# Altium footprint library BGA (1.0mm Pitch, Square5).PcbLib: 8 footprints (part 5 of 6)
Each footprint in its own frame and in the unit in brackets; x right, y up, seen from the top. Pads: shape width x height; smd on the part's side, far side on the other; paste and mask are expansions set on the pad; w line width, h text height; cw(c..) or ccw(c..) is an arc to the next point about the centre after c.
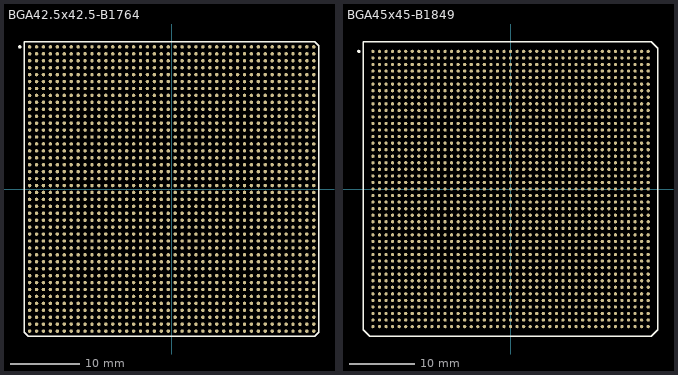
[diagram p4: the footprints below, top view; thin cyan lines are the x and y axes]

## BGA42.5x42.5-B1764 [mm] "BGA; 1764 Balls; Body 42.5 x 42.5 mm; Pitch 1 mm"
height 3.5
pads (1764):
  round 0.5 smd: A1(-20.5,20.5) A2(-19.5,20.5) A3(-18.5,20.5) A4(-17.5,20.5) A5(-16.5,20.5) A6(-15.5,20.5) A7(-14.5,20.5) A8(-13.5,20.5) A9(-12.5,20.5) A10(-11.5,20.5) A11(-10.5,20.5) A12(-9.5,20.5) A13(-8.5,20.5) A14(-7.5,20.5) A15(-6.5,20.5) A16(-5.5,20.5) A17(-4.5,20.5) A18(-3.5,20.5) A19(-2.5,20.5) A20(-1.5,20.5) A21(-0.5,20.5) A22(0.5,20.5) A23(1.5,20.5) A24(2.5,20.5) A25(3.5,20.5) A26(4.5,20.5) A27(5.5,20.5) A28(6.5,20.5) A29(7.5,20.5) A30(8.5,20.5) A31(9.5,20.5) A32(10.5,20.5) A33(11.5,20.5) A34(12.5,20.5) A35(13.5,20.5) A36(14.5,20.5) A37(15.5,20.5) A38(16.5,20.5) A39(17.5,20.5) A40(18.5,20.5) A41(19.5,20.5) A42(20.5,20.5) AA1(-20.5,0.5) AA2(-19.5,0.5) AA3(-18.5,0.5) AA4(-17.5,0.5) AA5(-16.5,0.5) AA6(-15.5,0.5) AA7(-14.5,0.5) AA8(-13.5,0.5) AA9(-12.5,0.5) AA10(-11.5,0.5) AA11(-10.5,0.5) AA12(-9.5,0.5) AA13(-8.5,0.5) AA14(-7.5,0.5) AA15(-6.5,0.5) AA16(-5.5,0.5) AA17(-4.5,0.5) AA18(-3.5,0.5) AA19(-2.5,0.5) AA20(-1.5,0.5) AA21(-0.5,0.5) AA22(0.5,0.5) AA23(1.5,0.5) AA24(2.5,0.5) AA25(3.5,0.5) AA26(4.5,0.5) AA27(5.5,0.5) AA28(6.5,0.5) AA29(7.5,0.5) AA30(8.5,0.5) AA31(9.5,0.5) AA32(10.5,0.5) AA33(11.5,0.5) AA34(12.5,0.5) AA35(13.5,0.5) AA36(14.5,0.5) AA37(15.5,0.5) AA38(16.5,0.5) AA39(17.5,0.5) AA40(18.5,0.5) AA41(19.5,0.5) AA42(20.5,0.5) AB1(-20.5,-0.5) AB2(-19.5,-0.5) AB3(-18.5,-0.5) AB4(-17.5,-0.5) AB5(-16.5,-0.5) AB6(-15.5,-0.5) AB7(-14.5,-0.5) AB8(-13.5,-0.5) AB9(-12.5,-0.5) AB10(-11.5,-0.5) AB11(-10.5,-0.5) AB12(-9.5,-0.5) AB13(-8.5,-0.5) AB14(-7.5,-0.5) AB15(-6.5,-0.5) AB16(-5.5,-0.5) AB17(-4.5,-0.5) AB18(-3.5,-0.5) AB19(-2.5,-0.5) AB20(-1.5,-0.5) AB21(-0.5,-0.5) AB22(0.5,-0.5) AB23(1.5,-0.5) AB24(2.5,-0.5) AB25(3.5,-0.5) AB26(4.5,-0.5) AB27(5.5,-0.5) AB28(6.5,-0.5) AB29(7.5,-0.5) AB30(8.5,-0.5) AB31(9.5,-0.5) AB32(10.5,-0.5) AB33(11.5,-0.5) AB34(12.5,-0.5) AB35(13.5,-0.5) AB36(14.5,-0.5) AB37(15.5,-0.5) AB38(16.5,-0.5) AB39(17.5,-0.5) AB40(18.5,-0.5) AB41(19.5,-0.5) AB42(20.5,-0.5) AC1(-20.5,-1.5) AC2(-19.5,-1.5) AC3(-18.5,-1.5) AC4(-17.5,-1.5) AC5(-16.5,-1.5) AC6(-15.5,-1.5) AC7(-14.5,-1.5) AC8(-13.5,-1.5) AC9(-12.5,-1.5) AC10(-11.5,-1.5) AC11(-10.5,-1.5) AC12(-9.5,-1.5) AC13(-8.5,-1.5) AC14(-7.5,-1.5) AC15(-6.5,-1.5) AC16(-5.5,-1.5) AC17(-4.5,-1.5) AC18(-3.5,-1.5) AC19(-2.5,-1.5) AC20(-1.5,-1.5) AC21(-0.5,-1.5) AC22(0.5,-1.5) AC23(1.5,-1.5) AC24(2.5,-1.5) AC25(3.5,-1.5) AC26(4.5,-1.5) AC27(5.5,-1.5) AC28(6.5,-1.5) AC29(7.5,-1.5) AC30(8.5,-1.5) AC31(9.5,-1.5) AC32(10.5,-1.5) AC33(11.5,-1.5) AC34(12.5,-1.5) AC35(13.5,-1.5) AC36(14.5,-1.5) AC37(15.5,-1.5) AC38(16.5,-1.5) AC39(17.5,-1.5) AC40(18.5,-1.5) AC41(19.5,-1.5) AC42(20.5,-1.5) AD1(-20.5,-2.5) AD2(-19.5,-2.5) AD3(-18.5,-2.5) AD4(-17.5,-2.5) AD5(-16.5,-2.5) AD6(-15.5,-2.5) AD7(-14.5,-2.5) AD8(-13.5,-2.5) AD9(-12.5,-2.5) AD10(-11.5,-2.5) AD11(-10.5,-2.5) AD12(-9.5,-2.5) AD13(-8.5,-2.5) AD14(-7.5,-2.5) AD15(-6.5,-2.5) AD16(-5.5,-2.5) AD17(-4.5,-2.5) AD18(-3.5,-2.5) AD19(-2.5,-2.5) AD20(-1.5,-2.5) AD21(-0.5,-2.5) AD22(0.5,-2.5) AD23(1.5,-2.5) AD24(2.5,-2.5) AD25(3.5,-2.5) AD26(4.5,-2.5) AD27(5.5,-2.5) AD28(6.5,-2.5) AD29(7.5,-2.5) AD30(8.5,-2.5) AD31(9.5,-2.5) AD32(10.5,-2.5) AD33(11.5,-2.5) AD34(12.5,-2.5) AD35(13.5,-2.5) AD36(14.5,-2.5) AD37(15.5,-2.5) AD38(16.5,-2.5) AD39(17.5,-2.5) AD40(18.5,-2.5) AD41(19.5,-2.5) AD42(20.5,-2.5) AE1(-20.5,-3.5) AE2(-19.5,-3.5) AE3(-18.5,-3.5) AE4(-17.5,-3.5) AE5(-16.5,-3.5) AE6(-15.5,-3.5) AE7(-14.5,-3.5) AE8(-13.5,-3.5) AE9(-12.5,-3.5) AE10(-11.5,-3.5) AE11(-10.5,-3.5) AE12(-9.5,-3.5) AE13(-8.5,-3.5) AE14(-7.5,-3.5) AE15(-6.5,-3.5) AE16(-5.5,-3.5) AE17(-4.5,-3.5) AE18(-3.5,-3.5) AE19(-2.5,-3.5) AE20(-1.5,-3.5) AE21(-0.5,-3.5) AE22(0.5,-3.5) AE23(1.5,-3.5) AE24(2.5,-3.5) AE25(3.5,-3.5) AE26(4.5,-3.5) AE27(5.5,-3.5) AE28(6.5,-3.5) AE29(7.5,-3.5) AE30(8.5,-3.5) AE31(9.5,-3.5) AE32(10.5,-3.5) AE33(11.5,-3.5) AE34(12.5,-3.5) AE35(13.5,-3.5) AE36(14.5,-3.5) AE37(15.5,-3.5) AE38(16.5,-3.5) AE39(17.5,-3.5) AE40(18.5,-3.5) AE41(19.5,-3.5) AE42(20.5,-3.5) AF1(-20.5,-4.5) AF2(-19.5,-4.5) AF3(-18.5,-4.5) AF4(-17.5,-4.5) AF5(-16.5,-4.5) AF6(-15.5,-4.5) AF7(-14.5,-4.5) AF8(-13.5,-4.5) AF9(-12.5,-4.5) AF10(-11.5,-4.5) AF11(-10.5,-4.5) AF12(-9.5,-4.5) AF13(-8.5,-4.5) AF14(-7.5,-4.5) AF15(-6.5,-4.5) AF16(-5.5,-4.5) AF17(-4.5,-4.5) AF18(-3.5,-4.5) AF19(-2.5,-4.5) AF20(-1.5,-4.5) AF21(-0.5,-4.5) AF22(0.5,-4.5) AF23(1.5,-4.5) AF24(2.5,-4.5) AF25(3.5,-4.5) AF26(4.5,-4.5) AF27(5.5,-4.5) AF28(6.5,-4.5) AF29(7.5,-4.5) AF30(8.5,-4.5) AF31(9.5,-4.5) AF32(10.5,-4.5) AF33(11.5,-4.5) AF34(12.5,-4.5) AF35(13.5,-4.5) AF36(14.5,-4.5) AF37(15.5,-4.5) AF38(16.5,-4.5) AF39(17.5,-4.5) AF40(18.5,-4.5) AF41(19.5,-4.5) AF42(20.5,-4.5) AG1(-20.5,-5.5) AG2(-19.5,-5.5) AG3(-18.5,-5.5) AG4(-17.5,-5.5) AG5(-16.5,-5.5) AG6(-15.5,-5.5) AG7(-14.5,-5.5) AG8(-13.5,-5.5) AG9(-12.5,-5.5) AG10(-11.5,-5.5) AG11(-10.5,-5.5) AG12(-9.5,-5.5) AG13(-8.5,-5.5) AG14(-7.5,-5.5) AG15(-6.5,-5.5) AG16(-5.5,-5.5) AG17(-4.5,-5.5) AG18(-3.5,-5.5) AG19(-2.5,-5.5) AG20(-1.5,-5.5) AG21(-0.5,-5.5) AG22(0.5,-5.5) AG23(1.5,-5.5) AG24(2.5,-5.5) AG25(3.5,-5.5) AG26(4.5,-5.5) AG27(5.5,-5.5) AG28(6.5,-5.5) AG29(7.5,-5.5) AG30(8.5,-5.5) AG31(9.5,-5.5) AG32(10.5,-5.5) AG33(11.5,-5.5) AG34(12.5,-5.5) AG35(13.5,-5.5) AG36(14.5,-5.5) AG37(15.5,-5.5) AG38(16.5,-5.5) AG39(17.5,-5.5) AG40(18.5,-5.5) AG41(19.5,-5.5) AG42(20.5,-5.5) AH1(-20.5,-6.5) AH2(-19.5,-6.5) AH3(-18.5,-6.5) AH4(-17.5,-6.5) AH5(-16.5,-6.5) AH6(-15.5,-6.5) AH7(-14.5,-6.5) AH8(-13.5,-6.5) AH9(-12.5,-6.5) AH10(-11.5,-6.5) AH11(-10.5,-6.5) AH12(-9.5,-6.5) AH13(-8.5,-6.5) AH14(-7.5,-6.5) AH15(-6.5,-6.5) AH16(-5.5,-6.5) AH17(-4.5,-6.5) AH18(-3.5,-6.5) AH19(-2.5,-6.5) AH20(-1.5,-6.5) AH21(-0.5,-6.5) AH22(0.5,-6.5) AH23(1.5,-6.5) AH24(2.5,-6.5) AH25(3.5,-6.5) AH26(4.5,-6.5) AH27(5.5,-6.5) AH28(6.5,-6.5) AH29(7.5,-6.5) AH30(8.5,-6.5) AH31(9.5,-6.5) AH32(10.5,-6.5) AH33(11.5,-6.5) AH34(12.5,-6.5) AH35(13.5,-6.5) AH36(14.5,-6.5) AH37(15.5,-6.5) AH38(16.5,-6.5) AH39(17.5,-6.5) AH40(18.5,-6.5) AH41(19.5,-6.5) AH42(20.5,-6.5) AJ1(-20.5,-7.5) AJ2(-19.5,-7.5) AJ3(-18.5,-7.5) AJ4(-17.5,-7.5) AJ5(-16.5,-7.5) AJ6(-15.5,-7.5) AJ7(-14.5,-7.5) AJ8(-13.5,-7.5) AJ9(-12.5,-7.5) AJ10(-11.5,-7.5) AJ11(-10.5,-7.5) AJ12(-9.5,-7.5) AJ13(-8.5,-7.5) AJ14(-7.5,-7.5) AJ15(-6.5,-7.5) AJ16(-5.5,-7.5) AJ17(-4.5,-7.5) AJ18(-3.5,-7.5) AJ19(-2.5,-7.5) AJ20(-1.5,-7.5) AJ21(-0.5,-7.5) AJ22(0.5,-7.5) AJ23(1.5,-7.5) AJ24(2.5,-7.5) AJ25(3.5,-7.5) AJ26(4.5,-7.5) AJ27(5.5,-7.5) AJ28(6.5,-7.5) AJ29(7.5,-7.5) AJ30(8.5,-7.5) AJ31(9.5,-7.5) AJ32(10.5,-7.5) AJ33(11.5,-7.5) AJ34(12.5,-7.5) AJ35(13.5,-7.5) AJ36(14.5,-7.5) AJ37(15.5,-7.5) AJ38(16.5,-7.5) AJ39(17.5,-7.5) AJ40(18.5,-7.5) AJ41(19.5,-7.5) AJ42(20.5,-7.5) AK1(-20.5,-8.5) AK2(-19.5,-8.5) AK3(-18.5,-8.5) AK4(-17.5,-8.5) AK5(-16.5,-8.5) AK6(-15.5,-8.5) AK7(-14.5,-8.5) AK8(-13.5,-8.5) AK9(-12.5,-8.5) AK10(-11.5,-8.5) AK11(-10.5,-8.5) AK12(-9.5,-8.5) AK13(-8.5,-8.5) AK14(-7.5,-8.5) AK15(-6.5,-8.5) AK16(-5.5,-8.5) AK17(-4.5,-8.5) AK18(-3.5,-8.5) AK19(-2.5,-8.5) AK20(-1.5,-8.5) AK21(-0.5,-8.5) AK22(0.5,-8.5) AK23(1.5,-8.5) AK24(2.5,-8.5) AK25(3.5,-8.5) AK26(4.5,-8.5) AK27(5.5,-8.5) AK28(6.5,-8.5) AK29(7.5,-8.5) AK30(8.5,-8.5) AK31(9.5,-8.5) AK32(10.5,-8.5) AK33(11.5,-8.5) AK34(12.5,-8.5) AK35(13.5,-8.5) AK36(14.5,-8.5) AK37(15.5,-8.5) AK38(16.5,-8.5) AK39(17.5,-8.5) AK40(18.5,-8.5) AK41(19.5,-8.5) AK42(20.5,-8.5) AL1(-20.5,-9.5) AL2(-19.5,-9.5) AL3(-18.5,-9.5) AL4(-17.5,-9.5) AL5(-16.5,-9.5) AL6(-15.5,-9.5) AL7(-14.5,-9.5) AL8(-13.5,-9.5) AL9(-12.5,-9.5) AL10(-11.5,-9.5) AL11(-10.5,-9.5) AL12(-9.5,-9.5) AL13(-8.5,-9.5) AL14(-7.5,-9.5) AL15(-6.5,-9.5) AL16(-5.5,-9.5) AL17(-4.5,-9.5) AL18(-3.5,-9.5) AL19(-2.5,-9.5) AL20(-1.5,-9.5) AL21(-0.5,-9.5) AL22(0.5,-9.5) AL23(1.5,-9.5) AL24(2.5,-9.5) AL25(3.5,-9.5) AL26(4.5,-9.5) AL27(5.5,-9.5) AL28(6.5,-9.5) AL29(7.5,-9.5) AL30(8.5,-9.5) AL31(9.5,-9.5) AL32(10.5,-9.5) AL33(11.5,-9.5) AL34(12.5,-9.5) AL35(13.5,-9.5) AL36(14.5,-9.5) AL37(15.5,-9.5) AL38(16.5,-9.5) AL39(17.5,-9.5) AL40(18.5,-9.5) AL41(19.5,-9.5) AL42(20.5,-9.5) AM1(-20.5,-10.5) AM2(-19.5,-10.5) AM3(-18.5,-10.5) AM4(-17.5,-10.5) AM5(-16.5,-10.5) AM6(-15.5,-10.5) AM7(-14.5,-10.5) AM8(-13.5,-10.5) AM9(-12.5,-10.5) AM10(-11.5,-10.5) AM11(-10.5,-10.5) AM12(-9.5,-10.5) AM13(-8.5,-10.5) AM14(-7.5,-10.5) AM15(-6.5,-10.5) AM16(-5.5,-10.5) AM17(-4.5,-10.5) AM18(-3.5,-10.5) AM19(-2.5,-10.5) AM20(-1.5,-10.5) AM21(-0.5,-10.5) AM22(0.5,-10.5) AM23(1.5,-10.5) AM24(2.5,-10.5) AM25(3.5,-10.5) AM26(4.5,-10.5) AM27(5.5,-10.5) AM28(6.5,-10.5) AM29(7.5,-10.5) AM30(8.5,-10.5) AM31(9.5,-10.5) AM32(10.5,-10.5) AM33(11.5,-10.5) AM34(12.5,-10.5) AM35(13.5,-10.5) AM36(14.5,-10.5) AM37(15.5,-10.5) AM38(16.5,-10.5) AM39(17.5,-10.5) AM40(18.5,-10.5) AM41(19.5,-10.5) AM42(20.5,-10.5) AN1(-20.5,-11.5) AN2(-19.5,-11.5) AN3(-18.5,-11.5) AN4(-17.5,-11.5) AN5(-16.5,-11.5) AN6(-15.5,-11.5) AN7(-14.5,-11.5) AN8(-13.5,-11.5) AN9(-12.5,-11.5) AN10(-11.5,-11.5) AN11(-10.5,-11.5) AN12(-9.5,-11.5) AN13(-8.5,-11.5) AN14(-7.5,-11.5) AN15(-6.5,-11.5) AN16(-5.5,-11.5) AN17(-4.5,-11.5) AN18(-3.5,-11.5) AN19(-2.5,-11.5) AN20(-1.5,-11.5) AN21(-0.5,-11.5) AN22(0.5,-11.5) AN23(1.5,-11.5) AN24(2.5,-11.5) AN25(3.5,-11.5) AN26(4.5,-11.5) AN27(5.5,-11.5) AN28(6.5,-11.5) AN29(7.5,-11.5) AN30(8.5,-11.5) AN31(9.5,-11.5) AN32(10.5,-11.5) AN33(11.5,-11.5) AN34(12.5,-11.5) AN35(13.5,-11.5) AN36(14.5,-11.5) AN37(15.5,-11.5) AN38(16.5,-11.5) AN39(17.5,-11.5) AN40(18.5,-11.5) AN41(19.5,-11.5) AN42(20.5,-11.5) AP1(-20.5,-12.5) AP2(-19.5,-12.5) AP3(-18.5,-12.5) AP4(-17.5,-12.5) AP5(-16.5,-12.5) AP6(-15.5,-12.5) AP7(-14.5,-12.5) AP8(-13.5,-12.5) AP9(-12.5,-12.5) AP10(-11.5,-12.5) AP11(-10.5,-12.5) AP12(-9.5,-12.5) AP13(-8.5,-12.5) AP14(-7.5,-12.5) AP15(-6.5,-12.5) AP16(-5.5,-12.5) AP17(-4.5,-12.5) AP18(-3.5,-12.5) AP19(-2.5,-12.5) AP20(-1.5,-12.5) AP21(-0.5,-12.5) AP22(0.5,-12.5) AP23(1.5,-12.5) AP24(2.5,-12.5) AP25(3.5,-12.5) AP26(4.5,-12.5) AP27(5.5,-12.5) AP28(6.5,-12.5) AP29(7.5,-12.5) AP30(8.5,-12.5) AP31(9.5,-12.5) AP32(10.5,-12.5) AP33(11.5,-12.5) AP34(12.5,-12.5) AP35(13.5,-12.5) AP36(14.5,-12.5) AP37(15.5,-12.5) AP38(16.5,-12.5) AP39(17.5,-12.5) AP40(18.5,-12.5) AP41(19.5,-12.5) AP42(20.5,-12.5) AR1(-20.5,-13.5) AR2(-19.5,-13.5) AR3(-18.5,-13.5) AR4(-17.5,-13.5) AR5(-16.5,-13.5) AR6(-15.5,-13.5) AR7(-14.5,-13.5) AR8(-13.5,-13.5) AR9(-12.5,-13.5) AR10(-11.5,-13.5) AR11(-10.5,-13.5) AR12(-9.5,-13.5) AR13(-8.5,-13.5) AR14(-7.5,-13.5) AR15(-6.5,-13.5) AR16(-5.5,-13.5) AR17(-4.5,-13.5) AR18(-3.5,-13.5) AR19(-2.5,-13.5) AR20(-1.5,-13.5) AR21(-0.5,-13.5) AR22(0.5,-13.5) AR23(1.5,-13.5) AR24(2.5,-13.5) AR25(3.5,-13.5) AR26(4.5,-13.5) AR27(5.5,-13.5) AR28(6.5,-13.5) AR29(7.5,-13.5) AR30(8.5,-13.5) AR31(9.5,-13.5) AR32(10.5,-13.5) AR33(11.5,-13.5) AR34(12.5,-13.5) AR35(13.5,-13.5) AR36(14.5,-13.5) AR37(15.5,-13.5) AR38(16.5,-13.5) AR39(17.5,-13.5) AR40(18.5,-13.5) AR41(19.5,-13.5) AR42(20.5,-13.5) AT1(-20.5,-14.5) AT2(-19.5,-14.5) AT3(-18.5,-14.5) AT4(-17.5,-14.5) AT5(-16.5,-14.5) AT6(-15.5,-14.5) AT7(-14.5,-14.5) AT8(-13.5,-14.5) AT9(-12.5,-14.5) AT10(-11.5,-14.5) AT11(-10.5,-14.5) AT12(-9.5,-14.5) AT13(-8.5,-14.5) AT14(-7.5,-14.5) AT15(-6.5,-14.5) AT16(-5.5,-14.5) AT17(-4.5,-14.5) AT18(-3.5,-14.5) AT19(-2.5,-14.5) AT20(-1.5,-14.5) AT21(-0.5,-14.5) AT22(0.5,-14.5) AT23(1.5,-14.5) AT24(2.5,-14.5) AT25(3.5,-14.5) AT26(4.5,-14.5) AT27(5.5,-14.5) AT28(6.5,-14.5) AT29(7.5,-14.5) AT30(8.5,-14.5) AT31(9.5,-14.5) AT32(10.5,-14.5) AT33(11.5,-14.5) AT34(12.5,-14.5) AT35(13.5,-14.5) AT36(14.5,-14.5) AT37(15.5,-14.5) AT38(16.5,-14.5) AT39(17.5,-14.5) AT40(18.5,-14.5) AT41(19.5,-14.5) AT42(20.5,-14.5) AU1(-20.5,-15.5) AU2(-19.5,-15.5) AU3(-18.5,-15.5) AU4(-17.5,-15.5) AU5(-16.5,-15.5) AU6(-15.5,-15.5) AU7(-14.5,-15.5) AU8(-13.5,-15.5) AU9(-12.5,-15.5) AU10(-11.5,-15.5) AU11(-10.5,-15.5) AU12(-9.5,-15.5) AU13(-8.5,-15.5) AU14(-7.5,-15.5) AU15(-6.5,-15.5) AU16(-5.5,-15.5) AU17(-4.5,-15.5) AU18(-3.5,-15.5) AU19(-2.5,-15.5) AU20(-1.5,-15.5) AU21(-0.5,-15.5) AU22(0.5,-15.5) AU23(1.5,-15.5) AU24(2.5,-15.5) AU25(3.5,-15.5) AU26(4.5,-15.5) AU27(5.5,-15.5) AU28(6.5,-15.5) AU29(7.5,-15.5) AU30(8.5,-15.5) AU31(9.5,-15.5) AU32(10.5,-15.5) AU33(11.5,-15.5) AU34(12.5,-15.5) AU35(13.5,-15.5) AU36(14.5,-15.5) AU37(15.5,-15.5) AU38(16.5,-15.5) AU39(17.5,-15.5) AU40(18.5,-15.5) AU41(19.5,-15.5) AU42(20.5,-15.5) AV1(-20.5,-16.5) AV2(-19.5,-16.5) AV3(-18.5,-16.5) AV4(-17.5,-16.5) AV5(-16.5,-16.5) AV6(-15.5,-16.5) AV7(-14.5,-16.5) AV8(-13.5,-16.5) AV9(-12.5,-16.5) AV10(-11.5,-16.5) AV11(-10.5,-16.5) AV12(-9.5,-16.5) AV13(-8.5,-16.5) AV14(-7.5,-16.5) AV15(-6.5,-16.5) AV16(-5.5,-16.5) AV17(-4.5,-16.5) AV18(-3.5,-16.5) AV19(-2.5,-16.5) AV20(-1.5,-16.5) AV21(-0.5,-16.5) AV22(0.5,-16.5) AV23(1.5,-16.5) AV24(2.5,-16.5) AV25(3.5,-16.5) AV26(4.5,-16.5) AV27(5.5,-16.5) AV28(6.5,-16.5) AV29(7.5,-16.5) AV30(8.5,-16.5) AV31(9.5,-16.5) AV32(10.5,-16.5) AV33(11.5,-16.5) AV34(12.5,-16.5) AV35(13.5,-16.5) AV36(14.5,-16.5) AV37(15.5,-16.5) AV38(16.5,-16.5) AV39(17.5,-16.5) AV40(18.5,-16.5) AV41(19.5,-16.5) AV42(20.5,-16.5) AW1(-20.5,-17.5) AW2(-19.5,-17.5) AW3(-18.5,-17.5) AW4(-17.5,-17.5) AW5(-16.5,-17.5) AW6(-15.5,-17.5) AW7(-14.5,-17.5) AW8(-13.5,-17.5) AW9(-12.5,-17.5) AW10(-11.5,-17.5) AW11(-10.5,-17.5) AW12(-9.5,-17.5) AW13(-8.5,-17.5) AW14(-7.5,-17.5) AW15(-6.5,-17.5) AW16(-5.5,-17.5) AW17(-4.5,-17.5) AW18(-3.5,-17.5) AW19(-2.5,-17.5) AW20(-1.5,-17.5) AW21(-0.5,-17.5) AW22(0.5,-17.5) AW23(1.5,-17.5) AW24(2.5,-17.5) AW25(3.5,-17.5) AW26(4.5,-17.5) AW27(5.5,-17.5) AW28(6.5,-17.5) AW29(7.5,-17.5) AW30(8.5,-17.5) AW31(9.5,-17.5) AW32(10.5,-17.5) AW33(11.5,-17.5) AW34(12.5,-17.5) AW35(13.5,-17.5) AW36(14.5,-17.5) AW37(15.5,-17.5) AW38(16.5,-17.5) AW39(17.5,-17.5) AW40(18.5,-17.5) AW41(19.5,-17.5) AW42(20.5,-17.5) AY1(-20.5,-18.5) AY2(-19.5,-18.5) AY3(-18.5,-18.5) AY4(-17.5,-18.5) AY5(-16.5,-18.5) AY6(-15.5,-18.5) AY7(-14.5,-18.5) AY8(-13.5,-18.5) AY9(-12.5,-18.5) AY10(-11.5,-18.5) AY11(-10.5,-18.5) AY12(-9.5,-18.5) AY13(-8.5,-18.5) AY14(-7.5,-18.5) AY15(-6.5,-18.5) AY16(-5.5,-18.5) AY17(-4.5,-18.5) AY18(-3.5,-18.5) AY19(-2.5,-18.5) AY20(-1.5,-18.5) AY21(-0.5,-18.5) AY22(0.5,-18.5) AY23(1.5,-18.5) AY24(2.5,-18.5) AY25(3.5,-18.5) AY26(4.5,-18.5) AY27(5.5,-18.5) AY28(6.5,-18.5) AY29(7.5,-18.5) AY30(8.5,-18.5) AY31(9.5,-18.5) AY32(10.5,-18.5) AY33(11.5,-18.5) AY34(12.5,-18.5) AY35(13.5,-18.5) AY36(14.5,-18.5) AY37(15.5,-18.5) AY38(16.5,-18.5) AY39(17.5,-18.5) AY40(18.5,-18.5) AY41(19.5,-18.5) AY42(20.5,-18.5) B1(-20.5,19.5) B2(-19.5,19.5) B3(-18.5,19.5) B4(-17.5,19.5) B5(-16.5,19.5) B6(-15.5,19.5) B7(-14.5,19.5) B8(-13.5,19.5) B9(-12.5,19.5) B10(-11.5,19.5) B11(-10.5,19.5) B12(-9.5,19.5) B13(-8.5,19.5) B14(-7.5,19.5) B15(-6.5,19.5) B16(-5.5,19.5) B17(-4.5,19.5) B18(-3.5,19.5) B19(-2.5,19.5) B20(-1.5,19.5) B21(-0.5,19.5) B22(0.5,19.5) B23(1.5,19.5) B24(2.5,19.5) B25(3.5,19.5) B26(4.5,19.5) B27(5.5,19.5) B28(6.5,19.5) B29(7.5,19.5) B30(8.5,19.5) B31(9.5,19.5) B32(10.5,19.5) B33(11.5,19.5) B34(12.5,19.5) B35(13.5,19.5) B36(14.5,19.5) B37(15.5,19.5) B38(16.5,19.5) B39(17.5,19.5) B40(18.5,19.5) B41(19.5,19.5) B42(20.5,19.5) BA1(-20.5,-19.5) BA2(-19.5,-19.5) BA3(-18.5,-19.5) BA4(-17.5,-19.5) BA5(-16.5,-19.5) BA6(-15.5,-19.5) BA7(-14.5,-19.5) BA8(-13.5,-19.5) BA9(-12.5,-19.5) BA10(-11.5,-19.5) BA11(-10.5,-19.5) BA12(-9.5,-19.5) BA13(-8.5,-19.5) BA14(-7.5,-19.5) BA15(-6.5,-19.5) BA16(-5.5,-19.5) BA17(-4.5,-19.5) BA18(-3.5,-19.5) BA19(-2.5,-19.5) BA20(-1.5,-19.5) BA21(-0.5,-19.5) BA22(0.5,-19.5) BA23(1.5,-19.5) BA24(2.5,-19.5) BA25(3.5,-19.5) BA26(4.5,-19.5) BA27(5.5,-19.5) BA28(6.5,-19.5) BA29(7.5,-19.5) BA30(8.5,-19.5) BA31(9.5,-19.5) BA32(10.5,-19.5) BA33(11.5,-19.5) BA34(12.5,-19.5) BA35(13.5,-19.5) BA36(14.5,-19.5) BA37(15.5,-19.5) BA38(16.5,-19.5) BA39(17.5,-19.5) BA40(18.5,-19.5) BA41(19.5,-19.5) BA42(20.5,-19.5) BB1(-20.5,-20.5) BB2(-19.5,-20.5) BB3(-18.5,-20.5) BB4(-17.5,-20.5) BB5(-16.5,-20.5) BB6(-15.5,-20.5) BB7(-14.5,-20.5) BB8(-13.5,-20.5) BB9(-12.5,-20.5) BB10(-11.5,-20.5) BB11(-10.5,-20.5) BB12(-9.5,-20.5) BB13(-8.5,-20.5) BB14(-7.5,-20.5) BB15(-6.5,-20.5) BB16(-5.5,-20.5) BB17(-4.5,-20.5) BB18(-3.5,-20.5) BB19(-2.5,-20.5) BB20(-1.5,-20.5) BB21(-0.5,-20.5) BB22(0.5,-20.5) BB23(1.5,-20.5) BB24(2.5,-20.5) BB25(3.5,-20.5) BB26(4.5,-20.5) BB27(5.5,-20.5) BB28(6.5,-20.5) BB29(7.5,-20.5) BB30(8.5,-20.5) BB31(9.5,-20.5) BB32(10.5,-20.5) BB33(11.5,-20.5) BB34(12.5,-20.5) BB35(13.5,-20.5) BB36(14.5,-20.5) BB37(15.5,-20.5) BB38(16.5,-20.5) BB39(17.5,-20.5) BB40(18.5,-20.5) BB41(19.5,-20.5) BB42(20.5,-20.5) C1(-20.5,18.5) C2(-19.5,18.5) C3(-18.5,18.5) C4(-17.5,18.5) C5(-16.5,18.5) C6(-15.5,18.5) C7(-14.5,18.5) C8(-13.5,18.5) C9(-12.5,18.5) C10(-11.5,18.5) C11(-10.5,18.5) C12(-9.5,18.5) C13(-8.5,18.5) C14(-7.5,18.5) C15(-6.5,18.5) C16(-5.5,18.5) C17(-4.5,18.5) C18(-3.5,18.5) C19(-2.5,18.5) C20(-1.5,18.5) C21(-0.5,18.5) C22(0.5,18.5) C23(1.5,18.5) C24(2.5,18.5) C25(3.5,18.5) C26(4.5,18.5) C27(5.5,18.5) C28(6.5,18.5) C29(7.5,18.5) C30(8.5,18.5) C31(9.5,18.5) C32(10.5,18.5) C33(11.5,18.5) C34(12.5,18.5) C35(13.5,18.5) C36(14.5,18.5) C37(15.5,18.5) C38(16.5,18.5) C39(17.5,18.5) C40(18.5,18.5) C41(19.5,18.5) C42(20.5,18.5) D1(-20.5,17.5) D2(-19.5,17.5) D3(-18.5,17.5) D4(-17.5,17.5) D5(-16.5,17.5) D6(-15.5,17.5) D7(-14.5,17.5) D8(-13.5,17.5) D9(-12.5,17.5) D10(-11.5,17.5) D11(-10.5,17.5) D12(-9.5,17.5) D13(-8.5,17.5) D14(-7.5,17.5) D15(-6.5,17.5) D16(-5.5,17.5) D17(-4.5,17.5) D18(-3.5,17.5) D19(-2.5,17.5) D20(-1.5,17.5) D21(-0.5,17.5) D22(0.5,17.5) D23(1.5,17.5) D24(2.5,17.5) D25(3.5,17.5) D26(4.5,17.5) D27(5.5,17.5) D28(6.5,17.5) D29(7.5,17.5) D30(8.5,17.5) D31(9.5,17.5) D32(10.5,17.5) D33(11.5,17.5) D34(12.5,17.5) D35(13.5,17.5) D36(14.5,17.5) D37(15.5,17.5) D38(16.5,17.5) D39(17.5,17.5) D40(18.5,17.5) D41(19.5,17.5) D42(20.5,17.5) E1(-20.5,16.5) E2(-19.5,16.5) E3(-18.5,16.5) E4(-17.5,16.5) E5(-16.5,16.5) E6(-15.5,16.5) E7(-14.5,16.5) E8(-13.5,16.5) E9(-12.5,16.5) E10(-11.5,16.5) E11(-10.5,16.5) E12(-9.5,16.5) E13(-8.5,16.5) E14(-7.5,16.5) E15(-6.5,16.5) E16(-5.5,16.5) E17(-4.5,16.5) E18(-3.5,16.5) E19(-2.5,16.5) E20(-1.5,16.5) E21(-0.5,16.5) E22(0.5,16.5) E23(1.5,16.5) E24(2.5,16.5) E25(3.5,16.5) E26(4.5,16.5) E27(5.5,16.5) E28(6.5,16.5) E29(7.5,16.5) E30(8.5,16.5) E31(9.5,16.5) E32(10.5,16.5) E33(11.5,16.5) E34(12.5,16.5) E35(13.5,16.5) E36(14.5,16.5) E37(15.5,16.5) E38(16.5,16.5) E39(17.5,16.5) E40(18.5,16.5) E41(19.5,16.5) E42(20.5,16.5) F1(-20.5,15.5) F2(-19.5,15.5) F3(-18.5,15.5) F4(-17.5,15.5) F5(-16.5,15.5) F6(-15.5,15.5) F7(-14.5,15.5) F8(-13.5,15.5) F9(-12.5,15.5) F10(-11.5,15.5) F11(-10.5,15.5) F12(-9.5,15.5) F13(-8.5,15.5) F14(-7.5,15.5) F15(-6.5,15.5) F16(-5.5,15.5) F17(-4.5,15.5) F18(-3.5,15.5) F19(-2.5,15.5) F20(-1.5,15.5) F21(-0.5,15.5) F22(0.5,15.5) F23(1.5,15.5) F24(2.5,15.5) F25(3.5,15.5) F26(4.5,15.5) F27(5.5,15.5) F28(6.5,15.5) F29(7.5,15.5) F30(8.5,15.5) F31(9.5,15.5) F32(10.5,15.5) F33(11.5,15.5) F34(12.5,15.5) F35(13.5,15.5) F36(14.5,15.5) F37(15.5,15.5) F38(16.5,15.5) F39(17.5,15.5) F40(18.5,15.5) F41(19.5,15.5) F42(20.5,15.5) G1(-20.5,14.5) G2(-19.5,14.5) G3(-18.5,14.5) G4(-17.5,14.5) G5(-16.5,14.5) G6(-15.5,14.5) G7(-14.5,14.5) G8(-13.5,14.5) G9(-12.5,14.5) G10(-11.5,14.5) G11(-10.5,14.5) G12(-9.5,14.5) G13(-8.5,14.5) G14(-7.5,14.5) G15(-6.5,14.5) G16(-5.5,14.5) G17(-4.5,14.5) G18(-3.5,14.5) G19(-2.5,14.5) G20(-1.5,14.5) G21(-0.5,14.5) G22(0.5,14.5) G23(1.5,14.5) G24(2.5,14.5) G25(3.5,14.5) G26(4.5,14.5) G27(5.5,14.5) G28(6.5,14.5) G29(7.5,14.5) G30(8.5,14.5) G31(9.5,14.5) G32(10.5,14.5) G33(11.5,14.5) G34(12.5,14.5) G35(13.5,14.5) G36(14.5,14.5) G37(15.5,14.5) G38(16.5,14.5) G39(17.5,14.5) G40(18.5,14.5) G41(19.5,14.5) G42(20.5,14.5) H1(-20.5,13.5) H2(-19.5,13.5) H3(-18.5,13.5) H4(-17.5,13.5) H5(-16.5,13.5) H6(-15.5,13.5) H7(-14.5,13.5) H8(-13.5,13.5) H9(-12.5,13.5) H10(-11.5,13.5) H11(-10.5,13.5) H12(-9.5,13.5) H13(-8.5,13.5) H14(-7.5,13.5) H15(-6.5,13.5) H16(-5.5,13.5) H17(-4.5,13.5) H18(-3.5,13.5) H19(-2.5,13.5) H20(-1.5,13.5) H21(-0.5,13.5) H22(0.5,13.5) H23(1.5,13.5) H24(2.5,13.5) H25(3.5,13.5) H26(4.5,13.5) H27(5.5,13.5) H28(6.5,13.5) H29(7.5,13.5) H30(8.5,13.5) H31(9.5,13.5) H32(10.5,13.5) H33(11.5,13.5) H34(12.5,13.5) H35(13.5,13.5) H36(14.5,13.5) H37(15.5,13.5) H38(16.5,13.5) H39(17.5,13.5) H40(18.5,13.5) H41(19.5,13.5) H42(20.5,13.5) J1(-20.5,12.5) J2(-19.5,12.5) J3(-18.5,12.5) J4(-17.5,12.5) J5(-16.5,12.5) J6(-15.5,12.5) J7(-14.5,12.5) J8(-13.5,12.5) J9(-12.5,12.5) J10(-11.5,12.5) J11(-10.5,12.5) J12(-9.5,12.5) J13(-8.5,12.5) J14(-7.5,12.5) J15(-6.5,12.5) J16(-5.5,12.5) J17(-4.5,12.5) J18(-3.5,12.5) J19(-2.5,12.5) J20(-1.5,12.5) J21(-0.5,12.5) J22(0.5,12.5) J23(1.5,12.5) J24(2.5,12.5) J25(3.5,12.5) J26(4.5,12.5) J27(5.5,12.5) J28(6.5,12.5) J29(7.5,12.5) J30(8.5,12.5) J31(9.5,12.5) J32(10.5,12.5) J33(11.5,12.5) J34(12.5,12.5) J35(13.5,12.5) J36(14.5,12.5) J37(15.5,12.5) J38(16.5,12.5) J39(17.5,12.5) J40(18.5,12.5) J41(19.5,12.5) J42(20.5,12.5) K1(-20.5,11.5) K2(-19.5,11.5) K3(-18.5,11.5) K4(-17.5,11.5) K5(-16.5,11.5) K6(-15.5,11.5) K7(-14.5,11.5) K8(-13.5,11.5) K9(-12.5,11.5) K10(-11.5,11.5) K11(-10.5,11.5) K12(-9.5,11.5) K13(-8.5,11.5) K14(-7.5,11.5) K15(-6.5,11.5) K16(-5.5,11.5) K17(-4.5,11.5) K18(-3.5,11.5) K19(-2.5,11.5) K20(-1.5,11.5) K21(-0.5,11.5) K22(0.5,11.5) K23(1.5,11.5) K24(2.5,11.5) K25(3.5,11.5) K26(4.5,11.5) K27(5.5,11.5) K28(6.5,11.5) K29(7.5,11.5) K30(8.5,11.5) K31(9.5,11.5) K32(10.5,11.5) K33(11.5,11.5) K34(12.5,11.5) K35(13.5,11.5) K36(14.5,11.5) K37(15.5,11.5) K38(16.5,11.5) K39(17.5,11.5) K40(18.5,11.5) K41(19.5,11.5) K42(20.5,11.5) L1(-20.5,10.5) L2(-19.5,10.5) L3(-18.5,10.5) L4(-17.5,10.5) L5(-16.5,10.5) L6(-15.5,10.5) L7(-14.5,10.5) L8(-13.5,10.5) L9(-12.5,10.5) L10(-11.5,10.5) L11(-10.5,10.5) L12(-9.5,10.5) L13(-8.5,10.5) L14(-7.5,10.5) L15(-6.5,10.5) L16(-5.5,10.5) L17(-4.5,10.5) L18(-3.5,10.5) L19(-2.5,10.5) L20(-1.5,10.5) L21(-0.5,10.5) L22(0.5,10.5) L23(1.5,10.5) L24(2.5,10.5) L25(3.5,10.5) L26(4.5,10.5) L27(5.5,10.5) L28(6.5,10.5) L29(7.5,10.5) L30(8.5,10.5) L31(9.5,10.5) L32(10.5,10.5) L33(11.5,10.5) L34(12.5,10.5) L35(13.5,10.5) L36(14.5,10.5) L37(15.5,10.5) L38(16.5,10.5) L39(17.5,10.5) L40(18.5,10.5) L41(19.5,10.5) L42(20.5,10.5) M1(-20.5,9.5) M2(-19.5,9.5) M3(-18.5,9.5) M4(-17.5,9.5) M5(-16.5,9.5) M6(-15.5,9.5) M7(-14.5,9.5) M8(-13.5,9.5) M9(-12.5,9.5) M10(-11.5,9.5) M11(-10.5,9.5) M12(-9.5,9.5) M13(-8.5,9.5) M14(-7.5,9.5) M15(-6.5,9.5) M16(-5.5,9.5) M17(-4.5,9.5) M18(-3.5,9.5) M19(-2.5,9.5) M20(-1.5,9.5) M21(-0.5,9.5) M22(0.5,9.5) M23(1.5,9.5) M24(2.5,9.5) M25(3.5,9.5) M26(4.5,9.5) M27(5.5,9.5) M28(6.5,9.5) M29(7.5,9.5) M30(8.5,9.5) M31(9.5,9.5) M32(10.5,9.5) M33(11.5,9.5) M34(12.5,9.5) M35(13.5,9.5) M36(14.5,9.5) M37(15.5,9.5) M38(16.5,9.5) M39(17.5,9.5) M40(18.5,9.5) M41(19.5,9.5) M42(20.5,9.5) N1(-20.5,8.5) N2(-19.5,8.5) N3(-18.5,8.5) N4(-17.5,8.5) N5(-16.5,8.5) N6(-15.5,8.5) N7(-14.5,8.5) N8(-13.5,8.5) N9(-12.5,8.5) N10(-11.5,8.5) N11(-10.5,8.5) N12(-9.5,8.5) N13(-8.5,8.5) N14(-7.5,8.5) N15(-6.5,8.5) N16(-5.5,8.5) N17(-4.5,8.5) N18(-3.5,8.5) N19(-2.5,8.5) N20(-1.5,8.5) N21(-0.5,8.5) N22(0.5,8.5) N23(1.5,8.5) N24(2.5,8.5) N25(3.5,8.5) N26(4.5,8.5) N27(5.5,8.5) N28(6.5,8.5) N29(7.5,8.5) N30(8.5,8.5) N31(9.5,8.5) N32(10.5,8.5) N33(11.5,8.5) N34(12.5,8.5) N35(13.5,8.5) N36(14.5,8.5) N37(15.5,8.5) N38(16.5,8.5) N39(17.5,8.5) N40(18.5,8.5) N41(19.5,8.5) N42(20.5,8.5) P1(-20.5,7.5) P2(-19.5,7.5) P3(-18.5,7.5) P4(-17.5,7.5) P5(-16.5,7.5) P6(-15.5,7.5) P7(-14.5,7.5) P8(-13.5,7.5) P9(-12.5,7.5) P10(-11.5,7.5) P11(-10.5,7.5) P12(-9.5,7.5) P13(-8.5,7.5) P14(-7.5,7.5) P15(-6.5,7.5) P16(-5.5,7.5) P17(-4.5,7.5) P18(-3.5,7.5) P19(-2.5,7.5) P20(-1.5,7.5) P21(-0.5,7.5) P22(0.5,7.5) P23(1.5,7.5) P24(2.5,7.5) P25(3.5,7.5) P26(4.5,7.5) P27(5.5,7.5) P28(6.5,7.5) P29(7.5,7.5) P30(8.5,7.5) P31(9.5,7.5) P32(10.5,7.5) P33(11.5,7.5) P34(12.5,7.5) P35(13.5,7.5) P36(14.5,7.5) P37(15.5,7.5) P38(16.5,7.5) P39(17.5,7.5) P40(18.5,7.5) P41(19.5,7.5) P42(20.5,7.5) R1(-20.5,6.5) R2(-19.5,6.5) R3(-18.5,6.5) R4(-17.5,6.5) R5(-16.5,6.5) R6(-15.5,6.5) R7(-14.5,6.5) R8(-13.5,6.5) R9(-12.5,6.5) R10(-11.5,6.5) R11(-10.5,6.5) R12(-9.5,6.5) R13(-8.5,6.5) R14(-7.5,6.5) R15(-6.5,6.5) R16(-5.5,6.5) R17(-4.5,6.5) R18(-3.5,6.5) R19(-2.5,6.5) R20(-1.5,6.5) R21(-0.5,6.5) R22(0.5,6.5) R23(1.5,6.5) R24(2.5,6.5) R25(3.5,6.5) R26(4.5,6.5) R27(5.5,6.5) R28(6.5,6.5) R29(7.5,6.5) R30(8.5,6.5) R31(9.5,6.5) R32(10.5,6.5) R33(11.5,6.5) R34(12.5,6.5) R35(13.5,6.5) R36(14.5,6.5) R37(15.5,6.5) R38(16.5,6.5) R39(17.5,6.5) R40(18.5,6.5) R41(19.5,6.5) R42(20.5,6.5) T1(-20.5,5.5) T2(-19.5,5.5) T3(-18.5,5.5) T4(-17.5,5.5) T5(-16.5,5.5) T6(-15.5,5.5) T7(-14.5,5.5) T8(-13.5,5.5) T9(-12.5,5.5) T10(-11.5,5.5) T11(-10.5,5.5) T12(-9.5,5.5) T13(-8.5,5.5) T14(-7.5,5.5) T15(-6.5,5.5) T16(-5.5,5.5) T17(-4.5,5.5) T18(-3.5,5.5) T19(-2.5,5.5) T20(-1.5,5.5) T21(-0.5,5.5) T22(0.5,5.5) T23(1.5,5.5) T24(2.5,5.5) T25(3.5,5.5) T26(4.5,5.5) T27(5.5,5.5) T28(6.5,5.5) T29(7.5,5.5) T30(8.5,5.5) T31(9.5,5.5) T32(10.5,5.5) T33(11.5,5.5) T34(12.5,5.5) T35(13.5,5.5) T36(14.5,5.5) T37(15.5,5.5) T38(16.5,5.5) T39(17.5,5.5) T40(18.5,5.5) T41(19.5,5.5) T42(20.5,5.5) U1(-20.5,4.5) U2(-19.5,4.5) U3(-18.5,4.5) U4(-17.5,4.5) U5(-16.5,4.5) U6(-15.5,4.5) U7(-14.5,4.5) U8(-13.5,4.5) U9(-12.5,4.5) U10(-11.5,4.5) U11(-10.5,4.5) U12(-9.5,4.5) U13(-8.5,4.5) U14(-7.5,4.5) U15(-6.5,4.5) U16(-5.5,4.5) U17(-4.5,4.5) U18(-3.5,4.5) U19(-2.5,4.5) U20(-1.5,4.5) U21(-0.5,4.5) U22(0.5,4.5) U23(1.5,4.5) U24(2.5,4.5) U25(3.5,4.5) U26(4.5,4.5) U27(5.5,4.5) U28(6.5,4.5) U29(7.5,4.5) U30(8.5,4.5) U31(9.5,4.5) U32(10.5,4.5) U33(11.5,4.5) U34(12.5,4.5) U35(13.5,4.5) U36(14.5,4.5) U37(15.5,4.5) U38(16.5,4.5) U39(17.5,4.5) U40(18.5,4.5) U41(19.5,4.5) U42(20.5,4.5) V1(-20.5,3.5) V2(-19.5,3.5) V3(-18.5,3.5) V4(-17.5,3.5) V5(-16.5,3.5) V6(-15.5,3.5) V7(-14.5,3.5) V8(-13.5,3.5) V9(-12.5,3.5) V10(-11.5,3.5) V11(-10.5,3.5) V12(-9.5,3.5) V13(-8.5,3.5) V14(-7.5,3.5) V15(-6.5,3.5) V16(-5.5,3.5) V17(-4.5,3.5) V18(-3.5,3.5) V19(-2.5,3.5) V20(-1.5,3.5) V21(-0.5,3.5) V22(0.5,3.5) V23(1.5,3.5) V24(2.5,3.5) V25(3.5,3.5) V26(4.5,3.5) V27(5.5,3.5) V28(6.5,3.5) V29(7.5,3.5) V30(8.5,3.5) V31(9.5,3.5) V32(10.5,3.5) V33(11.5,3.5) V34(12.5,3.5) V35(13.5,3.5) V36(14.5,3.5) V37(15.5,3.5) V38(16.5,3.5) V39(17.5,3.5) V40(18.5,3.5) V41(19.5,3.5) V42(20.5,3.5) W1(-20.5,2.5) W2(-19.5,2.5) W3(-18.5,2.5) W4(-17.5,2.5) W5(-16.5,2.5) W6(-15.5,2.5) W7(-14.5,2.5) W8(-13.5,2.5) W9(-12.5,2.5) W10(-11.5,2.5) W11(-10.5,2.5) W12(-9.5,2.5) W13(-8.5,2.5) W14(-7.5,2.5) W15(-6.5,2.5) W16(-5.5,2.5) W17(-4.5,2.5) W18(-3.5,2.5) W19(-2.5,2.5) W20(-1.5,2.5) W21(-0.5,2.5) W22(0.5,2.5) W23(1.5,2.5) W24(2.5,2.5) W25(3.5,2.5) W26(4.5,2.5) W27(5.5,2.5) W28(6.5,2.5) W29(7.5,2.5) W30(8.5,2.5) W31(9.5,2.5) W32(10.5,2.5) W33(11.5,2.5) W34(12.5,2.5) W35(13.5,2.5) W36(14.5,2.5) W37(15.5,2.5) W38(16.5,2.5) W39(17.5,2.5) W40(18.5,2.5) W41(19.5,2.5) W42(20.5,2.5) Y1(-20.5,1.5) Y2(-19.5,1.5) Y3(-18.5,1.5) Y4(-17.5,1.5) Y5(-16.5,1.5) Y6(-15.5,1.5) Y7(-14.5,1.5) Y8(-13.5,1.5) Y9(-12.5,1.5) Y10(-11.5,1.5) Y11(-10.5,1.5) Y12(-9.5,1.5) Y13(-8.5,1.5) Y14(-7.5,1.5) Y15(-6.5,1.5) Y16(-5.5,1.5) Y17(-4.5,1.5) Y18(-3.5,1.5) Y19(-2.5,1.5) Y20(-1.5,1.5) Y21(-0.5,1.5) Y22(0.5,1.5) Y23(1.5,1.5) Y24(2.5,1.5) Y25(3.5,1.5) Y26(4.5,1.5) Y27(5.5,1.5) Y28(6.5,1.5) Y29(7.5,1.5) Y30(8.5,1.5) Y31(9.5,1.5) Y32(10.5,1.5) Y33(11.5,1.5) Y34(12.5,1.5) Y35(13.5,1.5) Y36(14.5,1.5) Y37(15.5,1.5) Y38(16.5,1.5) Y39(17.5,1.5) Y40(18.5,1.5) Y41(19.5,1.5) Y42(20.5,1.5)
Top Overlay:
  circle w0.25: c-21.905,20.5 r0.125
  lines w0.2: -21.25,-20.669 -20.669,-21.25 20.669,-21.25 21.25,-20.669 21.25,20.669 20.669,21.25 -21.25,21.25 -21.25,-20.669

## BGA45x45-B1849 [mm] "BGA; 1849 Balls; Body 45 x 45 mm; Pitch 1 mm"
height 3.5
pads (1849):
  round 0.5 smd: A1(-21,21) A2(-20,21) A3(-19,21) A4(-18,21) A5(-17,21) A6(-16,21) A7(-15,21) A8(-14,21) A9(-13,21) A10(-12,21) A11(-11,21) A12(-10,21) A13(-9,21) A14(-8,21) A15(-7,21) A16(-6,21) A17(-5,21) A18(-4,21) A19(-3,21) A20(-2,21) A21(-1,21) A22(0,21) A23(1,21) A24(2,21) A25(3,21) A26(4,21) A27(5,21) A28(6,21) A29(7,21) A30(8,21) A31(9,21) A32(10,21) A33(11,21) A34(12,21) A35(13,21) A36(14,21) A37(15,21) A38(16,21) A39(17,21) A40(18,21) A41(19,21) A42(20,21) A43(21,21) AA1(-21,1) AA2(-20,1) AA3(-19,1) AA4(-18,1) AA5(-17,1) AA6(-16,1) AA7(-15,1) AA8(-14,1) AA9(-13,1) AA10(-12,1) AA11(-11,1) AA12(-10,1) AA13(-9,1) AA14(-8,1) AA15(-7,1) AA16(-6,1) AA17(-5,1) AA18(-4,1) AA19(-3,1) AA20(-2,1) AA21(-1,1) AA22(0,1) AA23(1,1) AA24(2,1) AA25(3,1) AA26(4,1) AA27(5,1) AA28(6,1) AA29(7,1) AA30(8,1) AA31(9,1) AA32(10,1) AA33(11,1) AA34(12,1) AA35(13,1) AA36(14,1) AA37(15,1) AA38(16,1) AA39(17,1) AA40(18,1) AA41(19,1) AA42(20,1) AA43(21,1) AB1(-21,0) AB2(-20,0) AB3(-19,0) AB4(-18,0) AB5(-17,0) AB6(-16,0) AB7(-15,0) AB8(-14,0) AB9(-13,0) AB10(-12,0) AB11(-11,0) AB12(-10,0) AB13(-9,0) AB14(-8,0) AB15(-7,0) AB16(-6,0) AB17(-5,0) AB18(-4,0) AB19(-3,0) AB20(-2,0) AB21(-1,0) AB22(0,0) AB23(1,0) AB24(2,0) AB25(3,0) AB26(4,0) AB27(5,0) AB28(6,0) AB29(7,0) AB30(8,0) AB31(9,0) AB32(10,0) AB33(11,0) AB34(12,0) AB35(13,0) AB36(14,0) AB37(15,0) AB38(16,0) AB39(17,0) AB40(18,0) AB41(19,0) AB42(20,0) AB43(21,0) AC1(-21,-1) AC2(-20,-1) AC3(-19,-1) AC4(-18,-1) AC5(-17,-1) AC6(-16,-1) AC7(-15,-1) AC8(-14,-1) AC9(-13,-1) AC10(-12,-1) AC11(-11,-1) AC12(-10,-1) AC13(-9,-1) AC14(-8,-1) AC15(-7,-1) AC16(-6,-1) AC17(-5,-1) AC18(-4,-1) AC19(-3,-1) AC20(-2,-1) AC21(-1,-1) AC22(0,-1) AC23(1,-1) AC24(2,-1) AC25(3,-1) AC26(4,-1) AC27(5,-1) AC28(6,-1) AC29(7,-1) AC30(8,-1) AC31(9,-1) AC32(10,-1) AC33(11,-1) AC34(12,-1) AC35(13,-1) AC36(14,-1) AC37(15,-1) AC38(16,-1) AC39(17,-1) AC40(18,-1) AC41(19,-1) AC42(20,-1) AC43(21,-1) AD1(-21,-2) AD2(-20,-2) AD3(-19,-2) AD4(-18,-2) AD5(-17,-2) AD6(-16,-2) AD7(-15,-2) AD8(-14,-2) AD9(-13,-2) AD10(-12,-2) AD11(-11,-2) AD12(-10,-2) AD13(-9,-2) AD14(-8,-2) AD15(-7,-2) AD16(-6,-2) AD17(-5,-2) AD18(-4,-2) AD19(-3,-2) AD20(-2,-2) AD21(-1,-2) AD22(0,-2) AD23(1,-2) AD24(2,-2) AD25(3,-2) AD26(4,-2) AD27(5,-2) AD28(6,-2) AD29(7,-2) AD30(8,-2) AD31(9,-2) AD32(10,-2) AD33(11,-2) AD34(12,-2) AD35(13,-2) AD36(14,-2) AD37(15,-2) AD38(16,-2) AD39(17,-2) AD40(18,-2) AD41(19,-2) AD42(20,-2) AD43(21,-2) AE1(-21,-3) AE2(-20,-3) AE3(-19,-3) AE4(-18,-3) AE5(-17,-3) AE6(-16,-3) AE7(-15,-3) AE8(-14,-3) AE9(-13,-3) AE10(-12,-3) AE11(-11,-3) AE12(-10,-3) AE13(-9,-3) AE14(-8,-3) AE15(-7,-3) AE16(-6,-3) AE17(-5,-3) AE18(-4,-3) AE19(-3,-3) AE20(-2,-3) AE21(-1,-3) AE22(0,-3) AE23(1,-3) AE24(2,-3) AE25(3,-3) AE26(4,-3) AE27(5,-3) AE28(6,-3) AE29(7,-3) AE30(8,-3) AE31(9,-3) AE32(10,-3) AE33(11,-3) AE34(12,-3) AE35(13,-3) AE36(14,-3) AE37(15,-3) AE38(16,-3) AE39(17,-3) AE40(18,-3) AE41(19,-3) AE42(20,-3) AE43(21,-3) AF1(-21,-4) AF2(-20,-4) AF3(-19,-4) AF4(-18,-4) AF5(-17,-4) AF6(-16,-4) AF7(-15,-4) AF8(-14,-4) AF9(-13,-4) AF10(-12,-4) AF11(-11,-4) AF12(-10,-4) AF13(-9,-4) AF14(-8,-4) AF15(-7,-4) AF16(-6,-4) AF17(-5,-4) AF18(-4,-4) AF19(-3,-4) AF20(-2,-4) AF21(-1,-4) AF22(0,-4) AF23(1,-4) AF24(2,-4) AF25(3,-4) AF26(4,-4) AF27(5,-4) AF28(6,-4) AF29(7,-4) AF30(8,-4) AF31(9,-4) AF32(10,-4) AF33(11,-4) AF34(12,-4) AF35(13,-4) AF36(14,-4) AF37(15,-4) AF38(16,-4) AF39(17,-4) AF40(18,-4) AF41(19,-4) AF42(20,-4) AF43(21,-4) AG1(-21,-5) AG2(-20,-5) AG3(-19,-5) AG4(-18,-5) AG5(-17,-5) AG6(-16,-5) AG7(-15,-5) AG8(-14,-5) AG9(-13,-5) AG10(-12,-5) AG11(-11,-5) AG12(-10,-5) AG13(-9,-5) AG14(-8,-5) AG15(-7,-5) AG16(-6,-5) AG17(-5,-5) AG18(-4,-5) AG19(-3,-5) AG20(-2,-5) AG21(-1,-5) AG22(0,-5) AG23(1,-5) AG24(2,-5) AG25(3,-5) AG26(4,-5) AG27(5,-5) AG28(6,-5) AG29(7,-5) AG30(8,-5) AG31(9,-5) AG32(10,-5) AG33(11,-5) AG34(12,-5) AG35(13,-5) AG36(14,-5) AG37(15,-5) AG38(16,-5) AG39(17,-5) AG40(18,-5) AG41(19,-5) AG42(20,-5) AG43(21,-5) AH1(-21,-6) AH2(-20,-6) AH3(-19,-6) AH4(-18,-6) AH5(-17,-6) AH6(-16,-6) AH7(-15,-6) AH8(-14,-6) AH9(-13,-6) AH10(-12,-6) AH11(-11,-6) AH12(-10,-6) AH13(-9,-6) AH14(-8,-6) AH15(-7,-6) AH16(-6,-6) AH17(-5,-6) AH18(-4,-6) AH19(-3,-6) AH20(-2,-6) AH21(-1,-6) AH22(0,-6) AH23(1,-6) AH24(2,-6) AH25(3,-6) AH26(4,-6) AH27(5,-6) AH28(6,-6) AH29(7,-6) AH30(8,-6) AH31(9,-6) AH32(10,-6) AH33(11,-6) AH34(12,-6) AH35(13,-6) AH36(14,-6) AH37(15,-6) AH38(16,-6) AH39(17,-6) AH40(18,-6) AH41(19,-6) AH42(20,-6) AH43(21,-6) AJ1(-21,-7) AJ2(-20,-7) AJ3(-19,-7) AJ4(-18,-7) AJ5(-17,-7) AJ6(-16,-7) AJ7(-15,-7) AJ8(-14,-7) AJ9(-13,-7) AJ10(-12,-7) AJ11(-11,-7) AJ12(-10,-7) AJ13(-9,-7) AJ14(-8,-7) AJ15(-7,-7) AJ16(-6,-7) AJ17(-5,-7) AJ18(-4,-7) AJ19(-3,-7) AJ20(-2,-7) AJ21(-1,-7) AJ22(0,-7) AJ23(1,-7) AJ24(2,-7) AJ25(3,-7) AJ26(4,-7) AJ27(5,-7) AJ28(6,-7) AJ29(7,-7) AJ30(8,-7) AJ31(9,-7) AJ32(10,-7) AJ33(11,-7) AJ34(12,-7) AJ35(13,-7) AJ36(14,-7) AJ37(15,-7) AJ38(16,-7) AJ39(17,-7) AJ40(18,-7) AJ41(19,-7) AJ42(20,-7) AJ43(21,-7) AK1(-21,-8) AK2(-20,-8) AK3(-19,-8) AK4(-18,-8) AK5(-17,-8) AK6(-16,-8) AK7(-15,-8) AK8(-14,-8) AK9(-13,-8) AK10(-12,-8) AK11(-11,-8) AK12(-10,-8) AK13(-9,-8) AK14(-8,-8) AK15(-7,-8) AK16(-6,-8) AK17(-5,-8) AK18(-4,-8) AK19(-3,-8) AK20(-2,-8) AK21(-1,-8) AK22(0,-8) AK23(1,-8) AK24(2,-8) AK25(3,-8) AK26(4,-8) AK27(5,-8) AK28(6,-8) AK29(7,-8) AK30(8,-8) AK31(9,-8) AK32(10,-8) AK33(11,-8) AK34(12,-8) AK35(13,-8) AK36(14,-8) AK37(15,-8) AK38(16,-8) AK39(17,-8) AK40(18,-8) AK41(19,-8) AK42(20,-8) AK43(21,-8) AL1(-21,-9) AL2(-20,-9) AL3(-19,-9) AL4(-18,-9) AL5(-17,-9) AL6(-16,-9) AL7(-15,-9) AL8(-14,-9) AL9(-13,-9) AL10(-12,-9) AL11(-11,-9) AL12(-10,-9) AL13(-9,-9) AL14(-8,-9) AL15(-7,-9) AL16(-6,-9) AL17(-5,-9) AL18(-4,-9) AL19(-3,-9) AL20(-2,-9) AL21(-1,-9) AL22(0,-9) AL23(1,-9) AL24(2,-9) AL25(3,-9) AL26(4,-9) AL27(5,-9) AL28(6,-9) AL29(7,-9) AL30(8,-9) AL31(9,-9) AL32(10,-9) AL33(11,-9) AL34(12,-9) AL35(13,-9) AL36(14,-9) AL37(15,-9) AL38(16,-9) AL39(17,-9) AL40(18,-9) AL41(19,-9) AL42(20,-9) AL43(21,-9) AM1(-21,-10) AM2(-20,-10) AM3(-19,-10) AM4(-18,-10) AM5(-17,-10) AM6(-16,-10) AM7(-15,-10) AM8(-14,-10) AM9(-13,-10) AM10(-12,-10) AM11(-11,-10) AM12(-10,-10) AM13(-9,-10) AM14(-8,-10) AM15(-7,-10) AM16(-6,-10) AM17(-5,-10) AM18(-4,-10) AM19(-3,-10) AM20(-2,-10) AM21(-1,-10) AM22(0,-10) AM23(1,-10) AM24(2,-10) AM25(3,-10) AM26(4,-10) AM27(5,-10) AM28(6,-10) AM29(7,-10) AM30(8,-10) AM31(9,-10) AM32(10,-10) AM33(11,-10) AM34(12,-10) AM35(13,-10) AM36(14,-10) AM37(15,-10) AM38(16,-10) AM39(17,-10) AM40(18,-10) AM41(19,-10) AM42(20,-10) AM43(21,-10) AN1(-21,-11) AN2(-20,-11) AN3(-19,-11) AN4(-18,-11) AN5(-17,-11) AN6(-16,-11) AN7(-15,-11) AN8(-14,-11) AN9(-13,-11) AN10(-12,-11) AN11(-11,-11) AN12(-10,-11) AN13(-9,-11) AN14(-8,-11) AN15(-7,-11) AN16(-6,-11) AN17(-5,-11) AN18(-4,-11) AN19(-3,-11) AN20(-2,-11) AN21(-1,-11) AN22(0,-11) AN23(1,-11) AN24(2,-11) AN25(3,-11) AN26(4,-11) AN27(5,-11) AN28(6,-11) AN29(7,-11) AN30(8,-11) AN31(9,-11) AN32(10,-11) AN33(11,-11) AN34(12,-11) AN35(13,-11) AN36(14,-11) AN37(15,-11) AN38(16,-11) AN39(17,-11) AN40(18,-11) AN41(19,-11) AN42(20,-11) AN43(21,-11) AP1(-21,-12) AP2(-20,-12) AP3(-19,-12) AP4(-18,-12) AP5(-17,-12) AP6(-16,-12) AP7(-15,-12) AP8(-14,-12) AP9(-13,-12) AP10(-12,-12) AP11(-11,-12) AP12(-10,-12) AP13(-9,-12) AP14(-8,-12) AP15(-7,-12) AP16(-6,-12) AP17(-5,-12) AP18(-4,-12) AP19(-3,-12) AP20(-2,-12) AP21(-1,-12) AP22(0,-12) AP23(1,-12) AP24(2,-12) AP25(3,-12) AP26(4,-12) AP27(5,-12) AP28(6,-12) AP29(7,-12) AP30(8,-12) AP31(9,-12) AP32(10,-12) AP33(11,-12) AP34(12,-12) AP35(13,-12) AP36(14,-12) AP37(15,-12) AP38(16,-12) AP39(17,-12) AP40(18,-12) AP41(19,-12) AP42(20,-12) AP43(21,-12) AR1(-21,-13) AR2(-20,-13) AR3(-19,-13) AR4(-18,-13) AR5(-17,-13) AR6(-16,-13) AR7(-15,-13) AR8(-14,-13) AR9(-13,-13) AR10(-12,-13) AR11(-11,-13) AR12(-10,-13) AR13(-9,-13) AR14(-8,-13) AR15(-7,-13) AR16(-6,-13) AR17(-5,-13) AR18(-4,-13) AR19(-3,-13) AR20(-2,-13) AR21(-1,-13) AR22(0,-13) AR23(1,-13) AR24(2,-13) AR25(3,-13) AR26(4,-13) AR27(5,-13) AR28(6,-13) AR29(7,-13) AR30(8,-13) AR31(9,-13) AR32(10,-13) AR33(11,-13) AR34(12,-13) AR35(13,-13) AR36(14,-13) AR37(15,-13) AR38(16,-13) AR39(17,-13) AR40(18,-13) AR41(19,-13) AR42(20,-13) AR43(21,-13) AT1(-21,-14) AT2(-20,-14) AT3(-19,-14) AT4(-18,-14) AT5(-17,-14) AT6(-16,-14) AT7(-15,-14) AT8(-14,-14) AT9(-13,-14) AT10(-12,-14) AT11(-11,-14) AT12(-10,-14) AT13(-9,-14) AT14(-8,-14) AT15(-7,-14) AT16(-6,-14) AT17(-5,-14) AT18(-4,-14) AT19(-3,-14) AT20(-2,-14) AT21(-1,-14) AT22(0,-14) AT23(1,-14) AT24(2,-14) AT25(3,-14) AT26(4,-14) AT27(5,-14) AT28(6,-14) AT29(7,-14) AT30(8,-14) AT31(9,-14) AT32(10,-14) AT33(11,-14) AT34(12,-14) AT35(13,-14) AT36(14,-14) AT37(15,-14) AT38(16,-14) AT39(17,-14) AT40(18,-14) AT41(19,-14) AT42(20,-14) AT43(21,-14) AU1(-21,-15) AU2(-20,-15) AU3(-19,-15) AU4(-18,-15) AU5(-17,-15) AU6(-16,-15) AU7(-15,-15) AU8(-14,-15) AU9(-13,-15) AU10(-12,-15) AU11(-11,-15) AU12(-10,-15) AU13(-9,-15) AU14(-8,-15) AU15(-7,-15) AU16(-6,-15) AU17(-5,-15) AU18(-4,-15) AU19(-3,-15) AU20(-2,-15) AU21(-1,-15) AU22(0,-15) AU23(1,-15) AU24(2,-15) AU25(3,-15) AU26(4,-15) AU27(5,-15) AU28(6,-15) AU29(7,-15) AU30(8,-15) AU31(9,-15) AU32(10,-15) AU33(11,-15) AU34(12,-15) AU35(13,-15) AU36(14,-15) AU37(15,-15) AU38(16,-15) AU39(17,-15) AU40(18,-15) AU41(19,-15) AU42(20,-15) AU43(21,-15) AV1(-21,-16) AV2(-20,-16) AV3(-19,-16) AV4(-18,-16) AV5(-17,-16) AV6(-16,-16) AV7(-15,-16) AV8(-14,-16) AV9(-13,-16) AV10(-12,-16) AV11(-11,-16) AV12(-10,-16) AV13(-9,-16) AV14(-8,-16) AV15(-7,-16) AV16(-6,-16) AV17(-5,-16) AV18(-4,-16) AV19(-3,-16) AV20(-2,-16) AV21(-1,-16) AV22(0,-16) AV23(1,-16) AV24(2,-16) AV25(3,-16) AV26(4,-16) AV27(5,-16) AV28(6,-16) AV29(7,-16) AV30(8,-16) AV31(9,-16) AV32(10,-16) AV33(11,-16) AV34(12,-16) AV35(13,-16) AV36(14,-16) AV37(15,-16) AV38(16,-16) AV39(17,-16) AV40(18,-16) AV41(19,-16) AV42(20,-16) AV43(21,-16) AW1(-21,-17) AW2(-20,-17) AW3(-19,-17) AW4(-18,-17) AW5(-17,-17) AW6(-16,-17) AW7(-15,-17) AW8(-14,-17) AW9(-13,-17) AW10(-12,-17) AW11(-11,-17) AW12(-10,-17) AW13(-9,-17) AW14(-8,-17) AW15(-7,-17) AW16(-6,-17) AW17(-5,-17) AW18(-4,-17) AW19(-3,-17) AW20(-2,-17) AW21(-1,-17) AW22(0,-17) AW23(1,-17) AW24(2,-17) AW25(3,-17) AW26(4,-17) AW27(5,-17) AW28(6,-17) AW29(7,-17) AW30(8,-17) AW31(9,-17) AW32(10,-17) AW33(11,-17) AW34(12,-17) AW35(13,-17) AW36(14,-17) AW37(15,-17) AW38(16,-17) AW39(17,-17) AW40(18,-17) AW41(19,-17) AW42(20,-17) AW43(21,-17) AY1(-21,-18) AY2(-20,-18) AY3(-19,-18) AY4(-18,-18) AY5(-17,-18) AY6(-16,-18) AY7(-15,-18) AY8(-14,-18) AY9(-13,-18) AY10(-12,-18) AY11(-11,-18) AY12(-10,-18) AY13(-9,-18) AY14(-8,-18) AY15(-7,-18) AY16(-6,-18) AY17(-5,-18) AY18(-4,-18) AY19(-3,-18) AY20(-2,-18) AY21(-1,-18) AY22(0,-18) AY23(1,-18) AY24(2,-18) AY25(3,-18) AY26(4,-18) AY27(5,-18) AY28(6,-18) AY29(7,-18) AY30(8,-18) AY31(9,-18) AY32(10,-18) AY33(11,-18) AY34(12,-18) AY35(13,-18) AY36(14,-18) AY37(15,-18) AY38(16,-18) AY39(17,-18) AY40(18,-18) AY41(19,-18) AY42(20,-18) AY43(21,-18) B1(-21,20) B2(-20,20) B3(-19,20) B4(-18,20) B5(-17,20) B6(-16,20) B7(-15,20) B8(-14,20) B9(-13,20) B10(-12,20) B11(-11,20) B12(-10,20) B13(-9,20) B14(-8,20) B15(-7,20) B16(-6,20) B17(-5,20) B18(-4,20) B19(-3,20) B20(-2,20) B21(-1,20) B22(0,20) B23(1,20) B24(2,20) B25(3,20) B26(4,20) B27(5,20) B28(6,20) B29(7,20) B30(8,20) B31(9,20) B32(10,20) B33(11,20) B34(12,20) B35(13,20) B36(14,20) B37(15,20) B38(16,20) B39(17,20) B40(18,20) B41(19,20) B42(20,20) B43(21,20) BA1(-21,-19) BA2(-20,-19) BA3(-19,-19) BA4(-18,-19) BA5(-17,-19) BA6(-16,-19) BA7(-15,-19) BA8(-14,-19) BA9(-13,-19) BA10(-12,-19) BA11(-11,-19) BA12(-10,-19) BA13(-9,-19) BA14(-8,-19) BA15(-7,-19) BA16(-6,-19) BA17(-5,-19) BA18(-4,-19) BA19(-3,-19) BA20(-2,-19) BA21(-1,-19) BA22(0,-19) BA23(1,-19) BA24(2,-19) BA25(3,-19) BA26(4,-19) BA27(5,-19) BA28(6,-19) BA29(7,-19) BA30(8,-19) BA31(9,-19) BA32(10,-19) BA33(11,-19) BA34(12,-19) BA35(13,-19) BA36(14,-19) BA37(15,-19) BA38(16,-19) BA39(17,-19) BA40(18,-19) BA41(19,-19) BA42(20,-19) BA43(21,-19) BB1(-21,-20) BB2(-20,-20) BB3(-19,-20) BB4(-18,-20) BB5(-17,-20) BB6(-16,-20) BB7(-15,-20) BB8(-14,-20) BB9(-13,-20) BB10(-12,-20) BB11(-11,-20) BB12(-10,-20) BB13(-9,-20) BB14(-8,-20) BB15(-7,-20) BB16(-6,-20) BB17(-5,-20) BB18(-4,-20) BB19(-3,-20) BB20(-2,-20) BB21(-1,-20) BB22(0,-20) BB23(1,-20) BB24(2,-20) BB25(3,-20) BB26(4,-20) BB27(5,-20) BB28(6,-20) BB29(7,-20) BB30(8,-20) BB31(9,-20) BB32(10,-20) BB33(11,-20) BB34(12,-20) BB35(13,-20) BB36(14,-20) BB37(15,-20) BB38(16,-20) BB39(17,-20) BB40(18,-20) BB41(19,-20) BB42(20,-20) BB43(21,-20) BC1(-21,-21) BC2(-20,-21) BC3(-19,-21) BC4(-18,-21) BC5(-17,-21) BC6(-16,-21) BC7(-15,-21) BC8(-14,-21) BC9(-13,-21) BC10(-12,-21) BC11(-11,-21) BC12(-10,-21) BC13(-9,-21) BC14(-8,-21) BC15(-7,-21) BC16(-6,-21) BC17(-5,-21) BC18(-4,-21) BC19(-3,-21) BC20(-2,-21) BC21(-1,-21) BC22(0,-21) BC23(1,-21) BC24(2,-21) BC25(3,-21) BC26(4,-21) BC27(5,-21) BC28(6,-21) BC29(7,-21) BC30(8,-21) BC31(9,-21) BC32(10,-21) BC33(11,-21) BC34(12,-21) BC35(13,-21) BC36(14,-21) BC37(15,-21) BC38(16,-21) BC39(17,-21) BC40(18,-21) BC41(19,-21) BC42(20,-21) BC43(21,-21) C1(-21,19) C2(-20,19) C3(-19,19) C4(-18,19) C5(-17,19) C6(-16,19) C7(-15,19) C8(-14,19) C9(-13,19) C10(-12,19) C11(-11,19) C12(-10,19) C13(-9,19) C14(-8,19) C15(-7,19) C16(-6,19) C17(-5,19) C18(-4,19) C19(-3,19) C20(-2,19) C21(-1,19) C22(0,19) C23(1,19) C24(2,19) C25(3,19) C26(4,19) C27(5,19) C28(6,19) C29(7,19) C30(8,19) C31(9,19) C32(10,19) C33(11,19) C34(12,19) C35(13,19) C36(14,19) C37(15,19) C38(16,19) C39(17,19) C40(18,19) C41(19,19) C42(20,19) C43(21,19) D1(-21,18) D2(-20,18) D3(-19,18) D4(-18,18) D5(-17,18) D6(-16,18) D7(-15,18) D8(-14,18) D9(-13,18) D10(-12,18) D11(-11,18) D12(-10,18) D13(-9,18) D14(-8,18) D15(-7,18) D16(-6,18) D17(-5,18) D18(-4,18) D19(-3,18) D20(-2,18) D21(-1,18) D22(0,18) D23(1,18) D24(2,18) D25(3,18) D26(4,18) D27(5,18) D28(6,18) D29(7,18) D30(8,18) D31(9,18) D32(10,18) D33(11,18) D34(12,18) D35(13,18) D36(14,18) D37(15,18) D38(16,18) D39(17,18) D40(18,18) D41(19,18) D42(20,18) D43(21,18) E1(-21,17) E2(-20,17) E3(-19,17) E4(-18,17) E5(-17,17) E6(-16,17) E7(-15,17) E8(-14,17) E9(-13,17) E10(-12,17) E11(-11,17) E12(-10,17) E13(-9,17) E14(-8,17) E15(-7,17) E16(-6,17) E17(-5,17) E18(-4,17) E19(-3,17) E20(-2,17) E21(-1,17) E22(0,17) E23(1,17) E24(2,17) E25(3,17) E26(4,17) E27(5,17) E28(6,17) E29(7,17) E30(8,17) E31(9,17) E32(10,17) E33(11,17) E34(12,17) E35(13,17) E36(14,17) E37(15,17) E38(16,17) E39(17,17) E40(18,17) E41(19,17) E42(20,17) E43(21,17) F1(-21,16) F2(-20,16) F3(-19,16) F4(-18,16) F5(-17,16) F6(-16,16) F7(-15,16) F8(-14,16) F9(-13,16) F10(-12,16) F11(-11,16) F12(-10,16) F13(-9,16) F14(-8,16) F15(-7,16) F16(-6,16) F17(-5,16) F18(-4,16) F19(-3,16) F20(-2,16) F21(-1,16) F22(0,16) F23(1,16) F24(2,16) F25(3,16) F26(4,16) F27(5,16) F28(6,16) F29(7,16) F30(8,16) F31(9,16) F32(10,16) F33(11,16) F34(12,16) F35(13,16) F36(14,16) F37(15,16) F38(16,16) F39(17,16) F40(18,16) F41(19,16) F42(20,16) F43(21,16) G1(-21,15) G2(-20,15) G3(-19,15) G4(-18,15) G5(-17,15) G6(-16,15) G7(-15,15) G8(-14,15) G9(-13,15) G10(-12,15) G11(-11,15) G12(-10,15) G13(-9,15) G14(-8,15) G15(-7,15) G16(-6,15) G17(-5,15) G18(-4,15) G19(-3,15) G20(-2,15) G21(-1,15) G22(0,15) G23(1,15) G24(2,15) G25(3,15) G26(4,15) G27(5,15) G28(6,15) G29(7,15) G30(8,15) G31(9,15) G32(10,15) G33(11,15) G34(12,15) G35(13,15) G36(14,15) G37(15,15) G38(16,15) G39(17,15) G40(18,15) G41(19,15) G42(20,15) G43(21,15) H1(-21,14) H2(-20,14) H3(-19,14) H4(-18,14) H5(-17,14) H6(-16,14) H7(-15,14) H8(-14,14) H9(-13,14) H10(-12,14) H11(-11,14) H12(-10,14) H13(-9,14) H14(-8,14) H15(-7,14) H16(-6,14) H17(-5,14) H18(-4,14) H19(-3,14) H20(-2,14) H21(-1,14) H22(0,14) H23(1,14) H24(2,14) H25(3,14) H26(4,14) H27(5,14) H28(6,14) H29(7,14) H30(8,14) H31(9,14) H32(10,14) H33(11,14) H34(12,14) H35(13,14) H36(14,14) H37(15,14) H38(16,14) H39(17,14) H40(18,14) H41(19,14) H42(20,14) H43(21,14) J1(-21,13) J2(-20,13) J3(-19,13) J4(-18,13) J5(-17,13) J6(-16,13) J7(-15,13) J8(-14,13) J9(-13,13) J10(-12,13) J11(-11,13) J12(-10,13) J13(-9,13) J14(-8,13) J15(-7,13) J16(-6,13) J17(-5,13) J18(-4,13) J19(-3,13) J20(-2,13) J21(-1,13) J22(0,13) J23(1,13) J24(2,13) J25(3,13) J26(4,13) J27(5,13) J28(6,13) J29(7,13) J30(8,13) J31(9,13) J32(10,13) J33(11,13) J34(12,13) J35(13,13) J36(14,13) J37(15,13) J38(16,13) J39(17,13) J40(18,13) J41(19,13) J42(20,13) J43(21,13) K1(-21,12) K2(-20,12) K3(-19,12) K4(-18,12) K5(-17,12) K6(-16,12) K7(-15,12) K8(-14,12) K9(-13,12) K10(-12,12) K11(-11,12) K12(-10,12) K13(-9,12) K14(-8,12) K15(-7,12) K16(-6,12) K17(-5,12) K18(-4,12) K19(-3,12) K20(-2,12) K21(-1,12) K22(0,12) K23(1,12) K24(2,12) K25(3,12) K26(4,12) K27(5,12) K28(6,12) K29(7,12) K30(8,12) K31(9,12) K32(10,12) K33(11,12) K34(12,12) K35(13,12) K36(14,12) K37(15,12) K38(16,12) K39(17,12) K40(18,12) K41(19,12) K42(20,12) K43(21,12) L1(-21,11) L2(-20,11) L3(-19,11) L4(-18,11) L5(-17,11) L6(-16,11) L7(-15,11) L8(-14,11) L9(-13,11) L10(-12,11) L11(-11,11) L12(-10,11) L13(-9,11) L14(-8,11) L15(-7,11) L16(-6,11) L17(-5,11) L18(-4,11) L19(-3,11) L20(-2,11) L21(-1,11) L22(0,11) L23(1,11) L24(2,11) L25(3,11) L26(4,11) L27(5,11) L28(6,11) L29(7,11) L30(8,11) L31(9,11) L32(10,11) L33(11,11) L34(12,11) L35(13,11) L36(14,11) L37(15,11) L38(16,11) L39(17,11) L40(18,11) L41(19,11) L42(20,11) L43(21,11) M1(-21,10) M2(-20,10) M3(-19,10) M4(-18,10) M5(-17,10) M6(-16,10) M7(-15,10) M8(-14,10) M9(-13,10) M10(-12,10) M11(-11,10) M12(-10,10) M13(-9,10) M14(-8,10) M15(-7,10) M16(-6,10) M17(-5,10) M18(-4,10) M19(-3,10) M20(-2,10) M21(-1,10) M22(0,10) M23(1,10) M24(2,10) M25(3,10) M26(4,10) M27(5,10) M28(6,10) M29(7,10) M30(8,10) M31(9,10) M32(10,10) M33(11,10) M34(12,10) M35(13,10) M36(14,10) M37(15,10) M38(16,10) M39(17,10) M40(18,10) M41(19,10) M42(20,10) M43(21,10) N1(-21,9) N2(-20,9) N3(-19,9) N4(-18,9) N5(-17,9) N6(-16,9) N7(-15,9) N8(-14,9) N9(-13,9) N10(-12,9) N11(-11,9) N12(-10,9) N13(-9,9) N14(-8,9) N15(-7,9) N16(-6,9) N17(-5,9) N18(-4,9) N19(-3,9) N20(-2,9) N21(-1,9) N22(0,9) N23(1,9) N24(2,9) N25(3,9) N26(4,9) N27(5,9) N28(6,9) N29(7,9) N30(8,9) N31(9,9) N32(10,9) N33(11,9) N34(12,9) N35(13,9) N36(14,9) N37(15,9) N38(16,9) N39(17,9) N40(18,9) N41(19,9) N42(20,9) N43(21,9) P1(-21,8) P2(-20,8) P3(-19,8) P4(-18,8) P5(-17,8) P6(-16,8) P7(-15,8) P8(-14,8) P9(-13,8) P10(-12,8) P11(-11,8) P12(-10,8) P13(-9,8) P14(-8,8) P15(-7,8) P16(-6,8) P17(-5,8) P18(-4,8) P19(-3,8) P20(-2,8) P21(-1,8) P22(0,8) P23(1,8) P24(2,8) P25(3,8) P26(4,8) P27(5,8) P28(6,8) P29(7,8) P30(8,8) P31(9,8) P32(10,8) P33(11,8) P34(12,8) P35(13,8) P36(14,8) P37(15,8) P38(16,8) P39(17,8) P40(18,8) P41(19,8) P42(20,8) P43(21,8) R1(-21,7) R2(-20,7) R3(-19,7) R4(-18,7) R5(-17,7) R6(-16,7) R7(-15,7) R8(-14,7) R9(-13,7) R10(-12,7) R11(-11,7) R12(-10,7) R13(-9,7) R14(-8,7) R15(-7,7) R16(-6,7) R17(-5,7) R18(-4,7) R19(-3,7) R20(-2,7) R21(-1,7) R22(0,7) R23(1,7) R24(2,7) R25(3,7) R26(4,7) R27(5,7) R28(6,7) R29(7,7) R30(8,7) R31(9,7) R32(10,7) R33(11,7) R34(12,7) R35(13,7) R36(14,7) R37(15,7) R38(16,7) R39(17,7) R40(18,7) R41(19,7) R42(20,7) R43(21,7) T1(-21,6) T2(-20,6) T3(-19,6) T4(-18,6) T5(-17,6) T6(-16,6) T7(-15,6) T8(-14,6) T9(-13,6) T10(-12,6) T11(-11,6) T12(-10,6) T13(-9,6) T14(-8,6) T15(-7,6) T16(-6,6) T17(-5,6) T18(-4,6) T19(-3,6) T20(-2,6) T21(-1,6) T22(0,6) T23(1,6) T24(2,6) T25(3,6) T26(4,6) T27(5,6) T28(6,6) T29(7,6) T30(8,6) T31(9,6) T32(10,6) T33(11,6) T34(12,6) T35(13,6) T36(14,6) T37(15,6) T38(16,6) T39(17,6) T40(18,6) T41(19,6) T42(20,6) T43(21,6) U1(-21,5) U2(-20,5) U3(-19,5) U4(-18,5) U5(-17,5) U6(-16,5) U7(-15,5) U8(-14,5) U9(-13,5) U10(-12,5) U11(-11,5) U12(-10,5) U13(-9,5) U14(-8,5) U15(-7,5) U16(-6,5) U17(-5,5) U18(-4,5) U19(-3,5) U20(-2,5) U21(-1,5) U22(0,5) U23(1,5) U24(2,5) U25(3,5) U26(4,5) U27(5,5) U28(6,5) U29(7,5) U30(8,5) U31(9,5) U32(10,5) U33(11,5) U34(12,5) U35(13,5) U36(14,5) U37(15,5) U38(16,5) U39(17,5) U40(18,5) U41(19,5) U42(20,5) U43(21,5) V1(-21,4) V2(-20,4) V3(-19,4) V4(-18,4) V5(-17,4) V6(-16,4) V7(-15,4) V8(-14,4) V9(-13,4) V10(-12,4) V11(-11,4) V12(-10,4) V13(-9,4) V14(-8,4) V15(-7,4) V16(-6,4) V17(-5,4) V18(-4,4) V19(-3,4) V20(-2,4) V21(-1,4) V22(0,4) V23(1,4) V24(2,4) V25(3,4) V26(4,4) V27(5,4) V28(6,4) V29(7,4) V30(8,4) V31(9,4) V32(10,4) V33(11,4) V34(12,4) V35(13,4) V36(14,4) V37(15,4) V38(16,4) V39(17,4) V40(18,4) V41(19,4) V42(20,4) V43(21,4) W1(-21,3) W2(-20,3) W3(-19,3) W4(-18,3) W5(-17,3) W6(-16,3) W7(-15,3) W8(-14,3) W9(-13,3) W10(-12,3) W11(-11,3) W12(-10,3) W13(-9,3) W14(-8,3) W15(-7,3) W16(-6,3) W17(-5,3) W18(-4,3) W19(-3,3) W20(-2,3) W21(-1,3) W22(0,3) W23(1,3) W24(2,3) W25(3,3) W26(4,3) W27(5,3) W28(6,3) W29(7,3) W30(8,3) W31(9,3) W32(10,3) W33(11,3) W34(12,3) W35(13,3) W36(14,3) W37(15,3) W38(16,3) W39(17,3) W40(18,3) W41(19,3) W42(20,3) W43(21,3) Y1(-21,2) Y2(-20,2) Y3(-19,2) Y4(-18,2) Y5(-17,2) Y6(-16,2) Y7(-15,2) Y8(-14,2) Y9(-13,2) Y10(-12,2) Y11(-11,2) Y12(-10,2) Y13(-9,2) Y14(-8,2) Y15(-7,2) Y16(-6,2) Y17(-5,2) Y18(-4,2) Y19(-3,2) Y20(-2,2) Y21(-1,2) Y22(0,2) Y23(1,2) Y24(2,2) Y25(3,2) Y26(4,2) Y27(5,2) Y28(6,2) Y29(7,2) Y30(8,2) Y31(9,2) Y32(10,2) Y33(11,2) Y34(12,2) Y35(13,2) Y36(14,2) Y37(15,2) Y38(16,2) Y39(17,2) Y40(18,2) Y41(19,2) Y42(20,2) Y43(21,2)
Top Overlay:
  circle w0.25: c-23.155,21 r0.125
  lines w0.2: -22.5,-21.5 -21.5,-22.5 21.5,-22.5 22.5,-21.5 22.5,21.5 21.5,22.5 -22.5,22.5 -22.5,-21.5